# Altium schematic symbol library Microchip Interface.SchLib: 331 symbols (part 4 of 10)
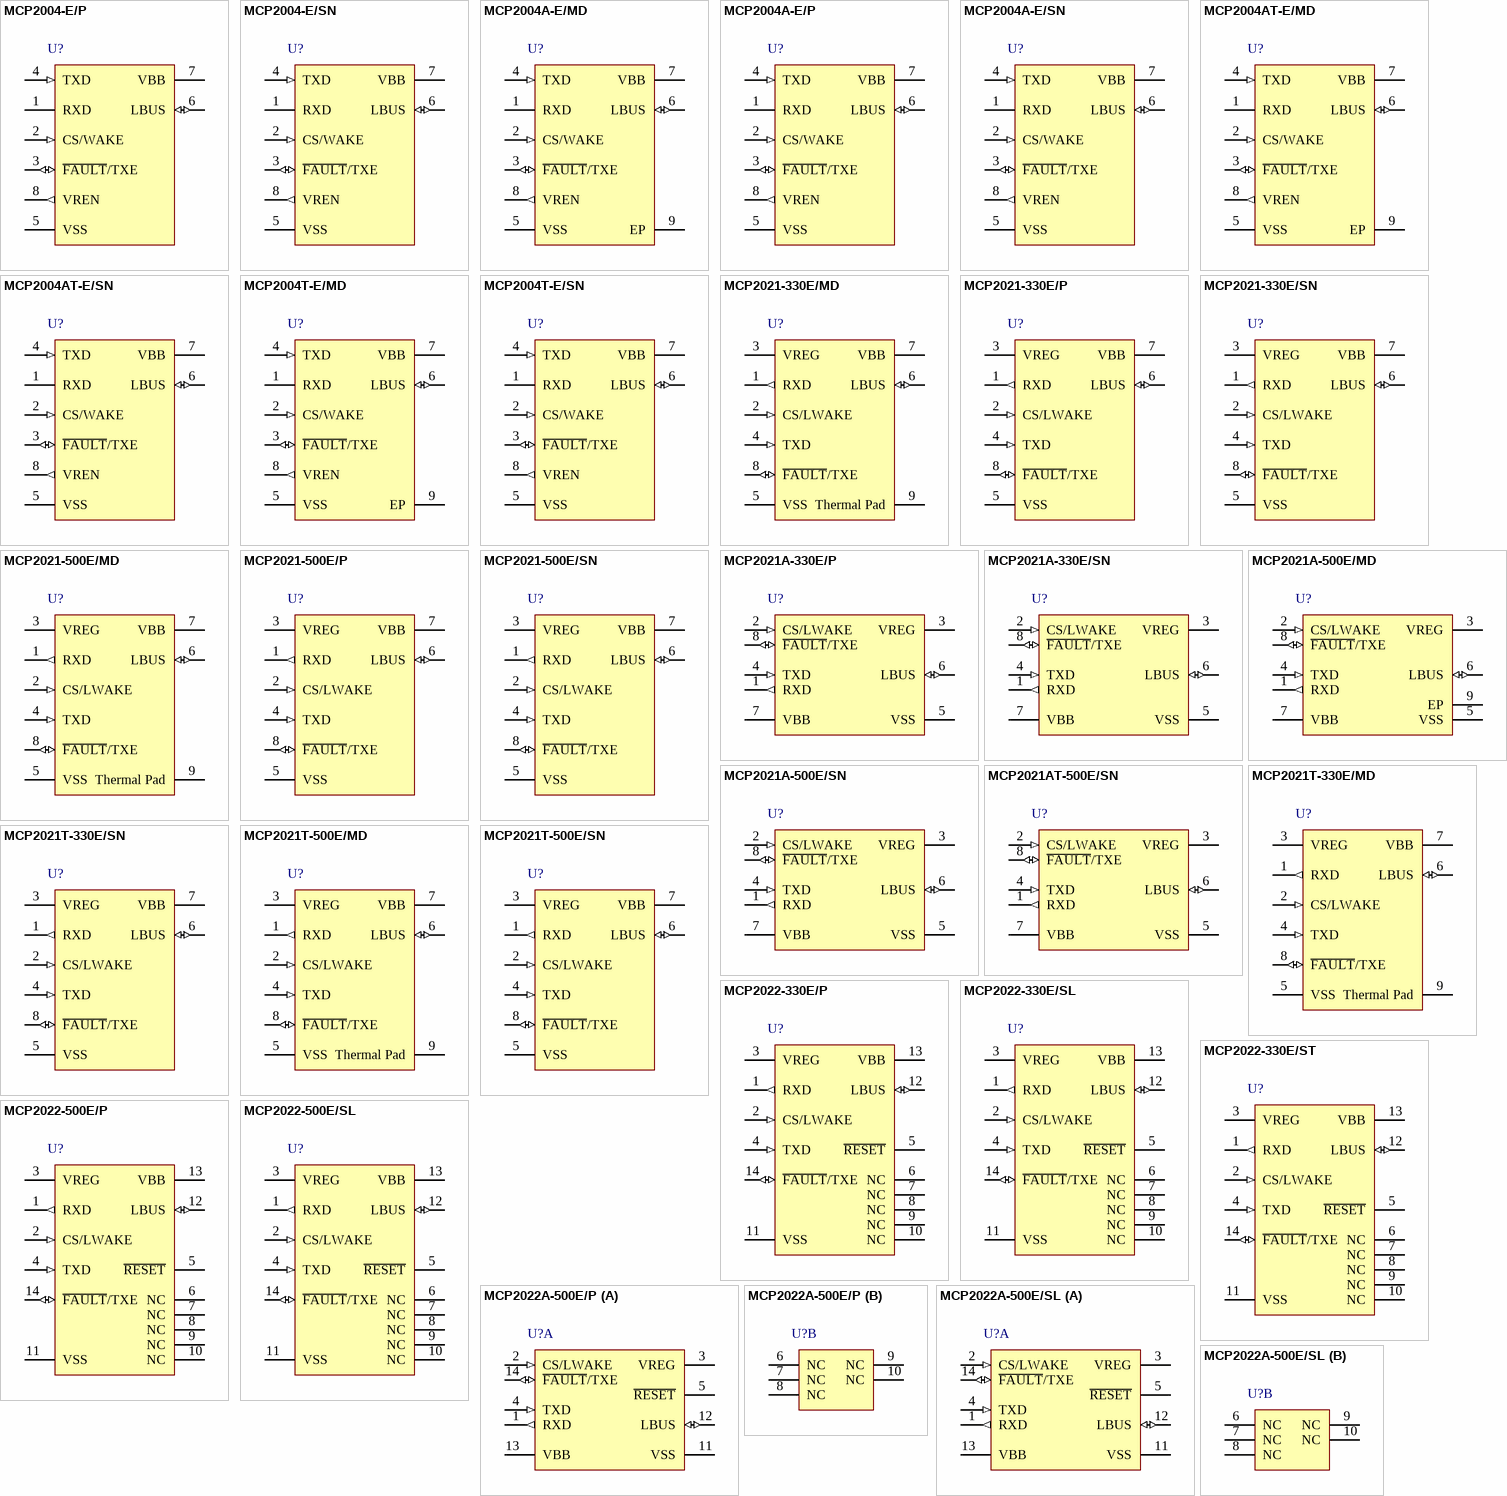
[diagram p16: symbols MCP2004-E/P to MCP2022A-500E/SL]

## MCP2021A-330E/SN
designator U?
LIN Transceiver with Voltage Regulator, 6 to 18 V, -40 to 125 degC, 8-pin SOIC (SN8), Tube; Manufacturer: Microchip; PartNumber: MCP2021A-330E/SN; DatasheetVersion: Rev. A; PackageVersion: C04-057C; PackageReference: SOIC-SN8; PackageDescription: 8-Lead Plastic Small Outline, 4.9 x 3.9 mm Body, 1.27 mm Pitch; Supplier 1: Newark; Supplier Part Number 1: 90T5938; Mounting Technology: Surface Mount; ComponentLink1Description: Manufacturer URL; ComponentLink1URL: http://www.microchip.com; ComponentLink2Description: Datasheet; ComponentLink2URL: http://ww1.microchip.com/downloads/en/DeviceDoc/22298A.pdf; ComponentLink3Description: Package Specification; ComponentLink3URL: http://www.microchip.com/stellent/groups/techpub_sg/documents/packagingspec/en012702.pdf; ComponentLink4Description: Product URL; ComponentLink4URL: http://www.microchip.com/MCP2021A
footprint MCHP-SOIC-SN8_N (SOIC, 8-Leads, Body 4.9x3.9mm, Pitch 1.27mm, IPC Medium Density)
footprint MCHP-SOIC-SN8_L (SOIC, 8-Leads, Body 4.9x3.9mm, Pitch 1.27mm, IPC High Density)
footprint MCHP-SOIC-SN8_M (SOIC, 8-Leads, Body 4.9x3.9mm, Pitch 1.27mm, IPC Low Density)
pins: 1 RXD (out) "Receive Data Output", 2 CS/LWAKE (in) "Chip Select and Local Wake-up Input", 3 VREG (power) "Voltage Regulator Output", 4 TXD (in) "Transmit Data Input", 5 VSS (power) "Ground", 6 LBUS (io) "LIN Bus", 7 VBB (power) "Battery", 8 ~{FAULT}/TXE (io) "Fault Detect Output/Transmitter Enable Input"

## MCP2021A-500E/MD
designator U?
LIN Transceiver with Voltage Regulator, 6 to 18 V, -40 to 125 degC, 8-pin DFN (MD8), Tube; Manufacturer: Microchip; PartNumber: MCP2021A-500E/MD; DatasheetVersion: Rev. A; PackageVersion: C04-131E; PackageReference: DFN-MD8; PackageDescription: 8-Lead Plastic Dual Flat, No Lead Package, 4 x 4 mm Body, 0.8 mm Pitch; Supplier 1: Newark; Supplier Part Number 1: 90T5939; Mounting Technology: Surface Mount; ComponentLink1Description: Manufacturer URL; ComponentLink1URL: http://www.microchip.com; ComponentLink2Description: Datasheet; ComponentLink2URL: http://ww1.microchip.com/downloads/en/DeviceDoc/22298A.pdf; ComponentLink3Description: Package Specification; ComponentLink3URL: http://www.microchip.com/stellent/groups/techpub_sg/documents/packagingspec/en012702.pdf; ComponentLink4Description: Product URL; ComponentLink4URL: http://www.microchip.com/MCP2021A
footprint MCHP-DFN-MD8_V (SON, 8-Leads, Body 4x4mm, Pitch 0.8mm, Thermal Pad 3.5x2.7mm)
pins: 1 RXD (out) "Receive Data Output pin. The RXD pin is a standard CMOS output pin and it follows the state of the LBUS pin.", 2 CS/LWAKE (in), 3 VREG (power) "Positive Supply Voltage Regulator Output pin. An onchip LDO gives +5.0 or +3.3V 70 mA regulated voltage on this pin.", 4 TXD (in) "Transmit data input pin (TTL level, HV compliant, adaptive pull-up). The transmitter reads the data stream on TXD pin and sends it to LIN bus. The LBUS pin is low (dominant) when TXD is low, and high (recessive) when TXD is (See Datasheet)", 5 VSS (power) "Ground pin.", 6 LBUS (io) "LIN Bus pin. LBUS is a bidirectional LIN bus Interface pin and is controlled by the signal TXD. It has an open collector output with a current limitation. To reduce ElectroMagnetic Emission, the slopes during signal changes (See Datasheet)", 7 VBB (power) "Battery Positive Supply Voltage pin. An external diode is connected in series to prevent the device from being reversely powered", 8 ~{FAULT}/TXE (io), 9 EP

## MCP2021A-500E/SN
designator U?
LIN Transceiver with Voltage Regulator, 6 to 18 V, -40 to 125 degC, 8-pin SOIC (SN8), Tube; Manufacturer: Microchip; PartNumber: MCP2021A-500E/SN; DatasheetVersion: Rev. A; PackageVersion: C04-057C; PackageReference: SOIC-SN8; PackageDescription: 8-Lead Plastic Small Outline, 4.9 x 3.9 mm Body, 1.27 mm Pitch; Supplier 1: Digi-Key; Supplier Part Number 1: MCP2021A-500E/SN-ND; Mounting Technology: Surface Mount; ComponentLink1Description: Manufacturer URL; ComponentLink1URL: http://www.microchip.com; ComponentLink2Description: Datasheet; ComponentLink2URL: http://ww1.microchip.com/downloads/en/DeviceDoc/22298A.pdf; ComponentLink3Description: Package Specification; ComponentLink3URL: http://www.microchip.com/stellent/groups/techpub_sg/documents/packagingspec/en012702.pdf; ComponentLink4Description: Product URL; ComponentLink4URL: http://www.microchip.com/MCP2021A
footprint MCHP-SOIC-SN8_N (SOIC, 8-Leads, Body 4.9x3.9mm, Pitch 1.27mm, IPC Medium Density)
footprint MCHP-SOIC-SN8_L (SOIC, 8-Leads, Body 4.9x3.9mm, Pitch 1.27mm, IPC High Density)
footprint MCHP-SOIC-SN8_M (SOIC, 8-Leads, Body 4.9x3.9mm, Pitch 1.27mm, IPC Low Density)
pins: 1 RXD (out) "Receive Data Output", 2 CS/LWAKE (in) "Chip Select and Local Wake-up Input", 3 VREG (power) "Voltage Regulator Output", 4 TXD (in) "Transmit Data Input", 5 VSS (power) "Ground", 6 LBUS (io) "LIN Bus", 7 VBB (power) "Battery", 8 ~{FAULT}/TXE (io) "Fault Detect Output/Transmitter Enable Input"

## MCP2021AT-500E/SN
designator U?
LIN Transceiver with Voltage Regulator, 6 to 18 V, -40 to 125 degC, 8-pin SOIC (SN8), Tape and Reel; Manufacturer: Microchip; PartNumber: MCP2021AT-500E/SN; DatasheetVersion: Rev. A; PackageVersion: C04-057C; PackageReference: SOIC-SN8; PackageDescription: 8-Lead Plastic Small Outline, 4.9 x 3.9 mm Body, 1.27 mm Pitch; Supplier 1: Digi-Key; Supplier Part Number 1: MCP2021AT-500E/SN-ND; Mounting Technology: Surface Mount; ComponentLink1Description: Manufacturer URL; ComponentLink1URL: http://www.microchip.com; ComponentLink2Description: Datasheet; ComponentLink2URL: http://ww1.microchip.com/downloads/en/DeviceDoc/22298A.pdf; ComponentLink3Description: Package Specification; ComponentLink3URL: http://www.microchip.com/stellent/groups/techpub_sg/documents/packagingspec/en012702.pdf; ComponentLink4Description: Product URL; ComponentLink4URL: http://www.microchip.com/MCP2021A
footprint MCHP-SOIC-SN8_N (SOIC, 8-Leads, Body 4.9x3.9mm, Pitch 1.27mm, IPC Medium Density)
footprint MCHP-SOIC-SN8_L (SOIC, 8-Leads, Body 4.9x3.9mm, Pitch 1.27mm, IPC High Density)
footprint MCHP-SOIC-SN8_M (SOIC, 8-Leads, Body 4.9x3.9mm, Pitch 1.27mm, IPC Low Density)
pins: 1 RXD (out) "Receive Data Output", 2 CS/LWAKE (in) "Chip Select and Local Wake-up Input", 3 VREG (power) "Voltage Regulator Output", 4 TXD (in) "Transmit Data Input", 5 VSS (power) "Ground", 6 LBUS (io) "LIN Bus", 7 VBB (power) "Battery", 8 ~{FAULT}/TXE (io) "Fault Detect Output/Transmitter Enable Input"

## MCP2021T-330E/MD
designator U?
LIN Transceiver with Voltage Regulator, 8-Pin DFN, Extended Temperature, Tape and Reel; Manufacturer: Microchip; PartNumber: MCP2021T-330E/MD; DatasheetVersion: revF, Jan-2012; PackageVersion: revBB, Aug-2009; PackageReference: DFN-MD8; PackageDescription: 8-Lead Plastic Dual Flat, No Lead Package (MD) - 4x4x0.9mm Body [DFN]; Supplier 1: Digi-Key; Supplier Part Number 1: MCP2021T-330E/MD-ND; Mounting Technology: Surface Mount; ComponentLink1Description: Manufacturer URL; ComponentLink1URL: http://www.microchip.com/; ComponentLink2Description: Datasheet; ComponentLink2URL: http://ww1.microchip.com/downloads/en/DeviceDoc/22018F.pdf; ComponentLink3Description: Package Specification; ComponentLink3URL: http://www.microchip.com/stellent/groups/techpub_sg/documents/packagingspec/en012702.pdf
footprint DFN-MD8 (SON, 8-Leads, Body 4x4mm, Pitch 0.8mm, Microchip Recommended)
pins: 1 RXD (out), 2 CS/LWAKE (in), 3 VREG (power), 4 TXD (in), 5 VSS (power), 6 LBUS (io), 7 VBB (power), 8 ~{FAULT}/TXE (io), 9 Thermal Pad

## MCP2021T-330E/SN
designator U?
LIN Transceiver with Voltage Regulator, 8-Pin SOIC, Extended Temperature, Tape and Reel; Manufacturer: Microchip; PartNumber: MCP2021T-330E/SN; DatasheetVersion: revF, Jan-2012; PackageVersion: revBB, Aug-2009; PackageReference: SOIC-SN8; PackageDescription: 8-Lead Plastic Small Outline (SN) - Narrow, 3.90mm Body [SOIC]; Supplier 1: Digi-Key; Supplier Part Number 1: MCP2021T-330E/SNTR-ND; Mounting Technology: Surface Mount; Code_JEDEC: MS-012; Code_IPC: SOIC127P600-8; ComponentLink1Description: Manufacturer URL; ComponentLink1URL: http://www.microchip.com/; ComponentLink2Description: Datasheet; ComponentLink2URL: http://ww1.microchip.com/downloads/en/DeviceDoc/22018F.pdf; ComponentLink3Description: Package Specification; ComponentLink3URL: http://www.microchip.com/stellent/groups/techpub_sg/documents/packagingspec/en012702.pdf
footprint SOIC-SN8_N (SOIC, 8-Leads, Body 4.9x3.8mm, Pitch 1.27mm, IPC Medium Density)
footprint SOIC-SN8_L (SOIC, 8-Leads, Body 4.9x3.8mm, Pitch 1.27mm, IPC High Density)
footprint SOIC-SN8_M (SOIC, 8-Leads, Body 4.9x3.8mm, Pitch 1.27mm, IPC Low Density)
pins: 1 RXD (out), 2 CS/LWAKE (in), 3 VREG (power), 4 TXD (in), 5 VSS (power), 6 LBUS (io), 7 VBB (power), 8 ~{FAULT}/TXE (io)

## MCP2021T-500E/MD
designator U?
LIN Transceiver with Voltage Regulator, 8-Pin DFN, Extended Temperature, Tape and Reel; Manufacturer: Microchip; PartNumber: MCP2021T-500E/MD; DatasheetVersion: revF, Jan-2012; PackageVersion: revBB, Aug-2009; PackageReference: DFN-MD8; PackageDescription: 8-Lead Plastic Dual Flat, No Lead Package (MD) - 4x4x0.9mm Body [DFN]; Supplier 1: Digi-Key; Supplier Part Number 1: MCP2021T-500E/MDTR-ND; Mounting Technology: Surface Mount; ComponentLink1Description: Manufacturer URL; ComponentLink1URL: http://www.microchip.com/; ComponentLink2Description: Datasheet; ComponentLink2URL: http://ww1.microchip.com/downloads/en/DeviceDoc/22018F.pdf; ComponentLink3Description: Package Specification; ComponentLink3URL: http://www.microchip.com/stellent/groups/techpub_sg/documents/packagingspec/en012702.pdf
footprint DFN-MD8 (SON, 8-Leads, Body 4x4mm, Pitch 0.8mm, Microchip Recommended)
pins: 1 RXD (out), 2 CS/LWAKE (in), 3 VREG (power), 4 TXD (in), 5 VSS (power), 6 LBUS (io), 7 VBB (power), 8 ~{FAULT}/TXE (io), 9 Thermal Pad

## MCP2021T-500E/SN
designator U?
LIN Transceiver with Voltage Regulator, 8-Pin SOIC, Extended Temperature, Tape and Reel; Manufacturer: Microchip; PartNumber: MCP2021T-500E/SN; DatasheetVersion: revF, Jan-2012; PackageVersion: revBB, Aug-2009; PackageReference: SOIC-SN8; PackageDescription: 8-Lead Plastic Small Outline (SN) - Narrow, 3.90mm Body [SOIC]; Supplier 1: Digi-Key; Supplier Part Number 1: MCP2021T-500E/SNTR-ND; Mounting Technology: Surface Mount; Code_JEDEC: MS-012; Code_IPC: SOIC127P600-8; ComponentLink1Description: Manufacturer URL; ComponentLink1URL: http://www.microchip.com/; ComponentLink2Description: Datasheet; ComponentLink2URL: http://ww1.microchip.com/downloads/en/DeviceDoc/22018F.pdf; ComponentLink3Description: Package Specification; ComponentLink3URL: http://www.microchip.com/stellent/groups/techpub_sg/documents/packagingspec/en012702.pdf
footprint SOIC-SN8_N (SOIC, 8-Leads, Body 4.9x3.8mm, Pitch 1.27mm, IPC Medium Density)
footprint SOIC-SN8_L (SOIC, 8-Leads, Body 4.9x3.8mm, Pitch 1.27mm, IPC High Density)
footprint SOIC-SN8_M (SOIC, 8-Leads, Body 4.9x3.8mm, Pitch 1.27mm, IPC Low Density)
pins: 1 RXD (out), 2 CS/LWAKE (in), 3 VREG (power), 4 TXD (in), 5 VSS (power), 6 LBUS (io), 7 VBB (power), 8 ~{FAULT}/TXE (io)

## MCP2022-330E/P
designator U?
LIN Transceiver with Voltage Regulator, 14-Pin PDIP, Extended Temperature; Manufacturer: Microchip; PartNumber: MCP2022-330E/P; DatasheetVersion: revF, Jan-2012; PackageVersion: revBB, Aug-2009; PackageReference: PDIP300-P14; PackageDescription: 14-Lead Plastic Dual In-Line (P) - 300 mil Body [PDIP]; Supplier 1: Digi-Key; Supplier Part Number 1: MCP2022-330E/P-ND; Mounting Technology: Through Hole; ComponentLink1Description: Manufacturer URL; ComponentLink1URL: http://www.microchip.com/; ComponentLink2Description: Datasheet; ComponentLink2URL: http://ww1.microchip.com/downloads/en/DeviceDoc/22018F.pdf; ComponentLink3Description: Package Specification; ComponentLink3URL: http://www.microchip.com/stellent/groups/techpub_sg/documents/packagingspec/en012702.pdf
footprint PDIP300-P14 (DIP, 14-Leads, Row Spacing 7.62mm, Pitch 2.54mm, Body 19.2x6.6mm)
pins: 1 RXD (out), 2 CS/LWAKE (in), 3 VREG (power), 4 TXD (in), 5 ~{RESET} (oc), 6 NC, 7 NC, 8 NC, 9 NC, 10 NC, 11 VSS (power), 12 LBUS (io), 13 VBB (power), 14 ~{FAULT}/TXE (io)

## MCP2022-330E/SL
designator U?
LIN Transceiver with Voltage Regulator, 14-Pin SOIC, Extended Temperature; Manufacturer: Microchip; PartNumber: MCP2022-330E/SL; DatasheetVersion: revF, Jan-2012; PackageVersion: revBB, Aug-2009; PackageReference: SOIC-SL14; PackageDescription: 14-Lead Plastic Small Outline (SL) - Narrow, 3.90mm Body [SOIC]; Supplier 1: Digi-Key; Supplier Part Number 1: MCP2022-330E/SL-ND; Mounting Technology: Surface Mount; Code_JEDEC: MS-012-AB; Code_IPC: SOIC127P600-14; ComponentLink1Description: Manufacturer URL; ComponentLink1URL: http://www.microchip.com/; ComponentLink2Description: Datasheet; ComponentLink2URL: http://ww1.microchip.com/downloads/en/DeviceDoc/22018F.pdf; ComponentLink3Description: Package Specification; ComponentLink3URL: http://www.microchip.com/stellent/groups/techpub_sg/documents/packagingspec/en012702.pdf
footprint SOIC-SL14_N (SOIC, 14-Leads, Body 8.7x3.9mm, Pitch 1.27mm, IPC Medium Density)
footprint SOIC-SL14_L (SOIC, 14-Leads, Body 8.7x3.9mm, Pitch 1.27mm, IPC High Density)
footprint SOIC-SL14_M (SOIC, 14-Leads, Body 8.7x3.9mm, Pitch 1.27mm, IPC Low Density)
pins: 1 RXD (out), 2 CS/LWAKE (in), 3 VREG (power), 4 TXD (in), 5 ~{RESET} (oc), 6 NC, 7 NC, 8 NC, 9 NC, 10 NC, 11 VSS (power), 12 LBUS (io), 13 VBB (power), 14 ~{FAULT}/TXE (io)

## MCP2022-330E/ST
designator U?
LIN Transceiver with Voltage Regulator, 14-Pin TSSOP, Extended Temperature; Manufacturer: Microchip; PartNumber: MCP2022-330E/ST; DatasheetVersion: revF, Jan-2012; PackageVersion: revBB, Aug-2009; PackageReference: TSSOP-ST14; PackageDescription: 14-Lead Plastic Thin Shrink Small Outline (ST) - 4.4mm Body [TSSOP]; Supplier 1: Digi-Key; Supplier Part Number 1: MCP2022-330E/ST-ND; Mounting Technology: Surface Mount; ComponentLink1Description: Manufacturer URL; ComponentLink1URL: http://www.microchip.com/; ComponentLink2Description: Datasheet; ComponentLink2URL: http://ww1.microchip.com/downloads/en/DeviceDoc/22018F.pdf; ComponentLink3Description: Package Specification; ComponentLink3URL: http://www.microchip.com/stellent/groups/techpub_sg/documents/packagingspec/en012702.pdf
footprint TSSOP-ST14_N (TSOP, 14-Leads, Body 5x4.4mm, Pitch 0.65mm, IPC Medium Density)
footprint TSSOP-ST14_L (TSOP, 14-Leads, Body 5x4.4mm, Pitch 0.65mm, IPC High Density)
footprint TSSOP-ST14_M (TSOP, 14-Leads, Body 5x4.4mm, Pitch 0.65mm, IPC Low Density)
pins: 1 RXD (out), 2 CS/LWAKE (in), 3 VREG (power), 4 TXD (in), 5 ~{RESET} (oc), 6 NC, 7 NC, 8 NC, 9 NC, 10 NC, 11 VSS (power), 12 LBUS (io), 13 VBB (power), 14 ~{FAULT}/TXE (io)

## MCP2022-500E/P
designator U?
LIN Transceiver with Voltage Regulator, 14-Pin PDIP, Extended Temperature; Manufacturer: Microchip; PartNumber: MCP2022-500E/P; DatasheetVersion: revF, Jan-2012; PackageVersion: revBB, Aug-2009; PackageReference: PDIP300-P14; PackageDescription: 14-Lead Plastic Dual In-Line (P) - 300 mil Body [PDIP]; Supplier 1: Digi-Key; Supplier Part Number 1: MCP2022-500E/P-ND; Mounting Technology: Through Hole; ComponentLink1Description: Manufacturer URL; ComponentLink1URL: http://www.microchip.com/; ComponentLink2Description: Datasheet; ComponentLink2URL: http://ww1.microchip.com/downloads/en/DeviceDoc/22018F.pdf; ComponentLink3Description: Package Specification; ComponentLink3URL: http://www.microchip.com/stellent/groups/techpub_sg/documents/packagingspec/en012702.pdf
footprint PDIP300-P14 (DIP, 14-Leads, Row Spacing 7.62mm, Pitch 2.54mm, Body 19.2x6.6mm)
pins: 1 RXD (out), 2 CS/LWAKE (in), 3 VREG (power), 4 TXD (in), 5 ~{RESET} (oc), 6 NC, 7 NC, 8 NC, 9 NC, 10 NC, 11 VSS (power), 12 LBUS (io), 13 VBB (power), 14 ~{FAULT}/TXE (io)

## MCP2022-500E/SL
designator U?
LIN Transceiver with Voltage Regulator, 14-Pin SOIC, Extended Temperature; Manufacturer: Microchip; PartNumber: MCP2022-500E/SL; DatasheetVersion: revF, Jan-2012; PackageVersion: revBB, Aug-2009; PackageReference: SOIC-SL14; PackageDescription: 14-Lead Plastic Small Outline (SL) - Narrow, 3.90mm Body [SOIC]; Supplier 1: Digi-Key; Supplier Part Number 1: MCP2022-500E/SL-ND; Mounting Technology: Surface Mount; Code_JEDEC: MS-012-AB; Code_IPC: SOIC127P600-14; ComponentLink1Description: Manufacturer URL; ComponentLink1URL: http://www.microchip.com/; ComponentLink2Description: Datasheet; ComponentLink2URL: http://ww1.microchip.com/downloads/en/DeviceDoc/22018F.pdf; ComponentLink3Description: Package Specification; ComponentLink3URL: http://www.microchip.com/stellent/groups/techpub_sg/documents/packagingspec/en012702.pdf
footprint SOIC-SL14_N (SOIC, 14-Leads, Body 8.7x3.9mm, Pitch 1.27mm, IPC Medium Density)
footprint SOIC-SL14_L (SOIC, 14-Leads, Body 8.7x3.9mm, Pitch 1.27mm, IPC High Density)
footprint SOIC-SL14_M (SOIC, 14-Leads, Body 8.7x3.9mm, Pitch 1.27mm, IPC Low Density)
pins: 1 RXD (out), 2 CS/LWAKE (in), 3 VREG (power), 4 TXD (in), 5 ~{RESET} (oc), 6 NC, 7 NC, 8 NC, 9 NC, 10 NC, 11 VSS (power), 12 LBUS (io), 13 VBB (power), 14 ~{FAULT}/TXE (io)

## MCP2022A-500E/P
designator U?
LIN Transceiver with Voltage Regulator, 200 uA, 6 to 18 V, -40 to 125 degC, 14-pin PDIP (P14), Tube; Manufacturer: Microchip; PartNumber: MCP2022A-500E/P; DatasheetVersion: Rev. A; PackageVersion: C04-005B; PackageReference: PDIP-P14; PackageDescription: 14-Lead Plastic Dual In-Line, 6.6 x 19.18 mm Body, 2.54 mm Pitch; Mounting Technology: Through Hole; ComponentLink1Description: Manufacturer URL; ComponentLink1URL: http://www.microchip.com; ComponentLink2Description: Datasheet; ComponentLink2URL: http://ww1.microchip.com/downloads/en/DeviceDoc/22298A.pdf; ComponentLink3Description: Package Specification; ComponentLink3URL: http://www.microchip.com/stellent/groups/techpub_sg/documents/packagingspec/en012702.pdf; ComponentLink4Description: Product URL; ComponentLink4URL: http://www.microchip.com/MCP2022A
footprint MCHP-PDIP-P14 (DIP, 14-Leads, Body 19.177x6.604mm, Pitch 2.54mm)
part A pins: 1 RXD (out) "Receive Data Output pin. The RXD pin is a standard CMOS output pin and it follows the state of the LBUS pin.", 2 CS/LWAKE (in), 3 VREG (power) "Positive Supply Voltage Regulator Output pin. An onchip LDO gives +5.0 or +3.3V 70 mA regulated voltage on this pin.", 4 TXD (in) "Transmit data input pin (TTL level, HV compliant, adaptive pull-up). The transmitter reads the data stream on TXD pin and sends it to LIN bus. The LBUS pin is low (dominant) when TXD is low, and high (recessive) when TXD is (See Datasheet)", 5 ~{RESET} (oc) "RESET OUTPUT pin. This pin is open drain with ~90 kO pull-up to VREG. It indicates the internal voltage has reached a valid, stable level. As long as the internal voltage is valid (above 0.8 VREG), this pin will remain HIGH (See Datasheet)", 11 VSS (power) "Ground pin.", 12 LBUS (io) "LIN Bus pin. LBUS is a bidirectional LIN bus Interface pin and is controlled by the signal TXD. It has an open collector output with a current limitation. To reduce ElectroMagnetic Emission, the slopes during signal changes (See Datasheet)", 13 VBB (power) "Battery Positive Supply Voltage pin. An external diode is connected in series to prevent the device from being reversely powered", 14 ~{FAULT}/TXE (io)
part B pins: 6 NC, 7 NC, 8 NC, 9 NC, 10 NC

## MCP2022A-500E/SL
designator U?
LIN Transceiver with Voltage Regulator, 200 uA, 6 to 18 V, -40 to 125 degC, 14-pin SOIC (SL14), Tube; Manufacturer: Microchip; PartNumber: MCP2022A-500E/SL; DatasheetVersion: Rev. A; PackageVersion: C04-065C; PackageReference: SOIC-SL14; PackageDescription: 14-Lead Plastic Small Outline, 8.65 x 3.9 mm Body, 1.27 mm Pitch; Supplier 1: Newark; Supplier Part Number 1: 90T5947; Mounting Technology: Surface Mount; ComponentLink1Description: Manufacturer URL; ComponentLink1URL: http://www.microchip.com; ComponentLink2Description: Datasheet; ComponentLink2URL: http://ww1.microchip.com/downloads/en/DeviceDoc/22298A.pdf; ComponentLink3Description: Package Specification; ComponentLink3URL: http://www.microchip.com/stellent/groups/techpub_sg/documents/packagingspec/en012702.pdf; ComponentLink4Description: Product URL; ComponentLink4URL: http://www.microchip.com/MCP2022A
footprint MCHP-SOIC-SL14_N (SOIC, 14-Leads, Body 8.65x3.9mm, Pitch 1.27mm, IPC Medium Density)
footprint MCHP-SOIC-SL14_L (SOIC, 14-Leads, Body 8.65x3.9mm, Pitch 1.27mm, IPC High Density)
footprint MCHP-SOIC-SL14_M (SOIC, 14-Leads, Body 8.65x3.9mm, Pitch 1.27mm, IPC Low Density)
part A pins: 1 RXD (out) "Receive Data Output pin. The RXD pin is a standard CMOS output pin and it follows the state of the LBUS pin.", 2 CS/LWAKE (in), 3 VREG (power) "Positive Supply Voltage Regulator Output pin. An onchip LDO gives +5.0 or +3.3V 70 mA regulated voltage on this pin.", 4 TXD (in) "Transmit data input pin (TTL level, HV compliant, adaptive pull-up). The transmitter reads the data stream on TXD pin and sends it to LIN bus. The LBUS pin is low (dominant) when TXD is low, and high (recessive) when TXD is (See Datasheet)", 5 ~{RESET} (oc) "RESET OUTPUT pin. This pin is open drain with ~90 kO pull-up to VREG. It indicates the internal voltage has reached a valid, stable level. As long as the internal voltage is valid (above 0.8 VREG), this pin will remain HIGH (See Datasheet)", 11 VSS (power) "Ground pin.", 12 LBUS (io) "LIN Bus pin. LBUS is a bidirectional LIN bus Interface pin and is controlled by the signal TXD. It has an open collector output with a current limitation. To reduce ElectroMagnetic Emission, the slopes during signal changes (See Datasheet)", 13 VBB (power) "Battery Positive Supply Voltage pin. An external diode is connected in series to prevent the device from being reversely powered", 14 ~{FAULT}/TXE (io)
part B pins: 6 NC, 7 NC, 8 NC, 9 NC, 10 NC

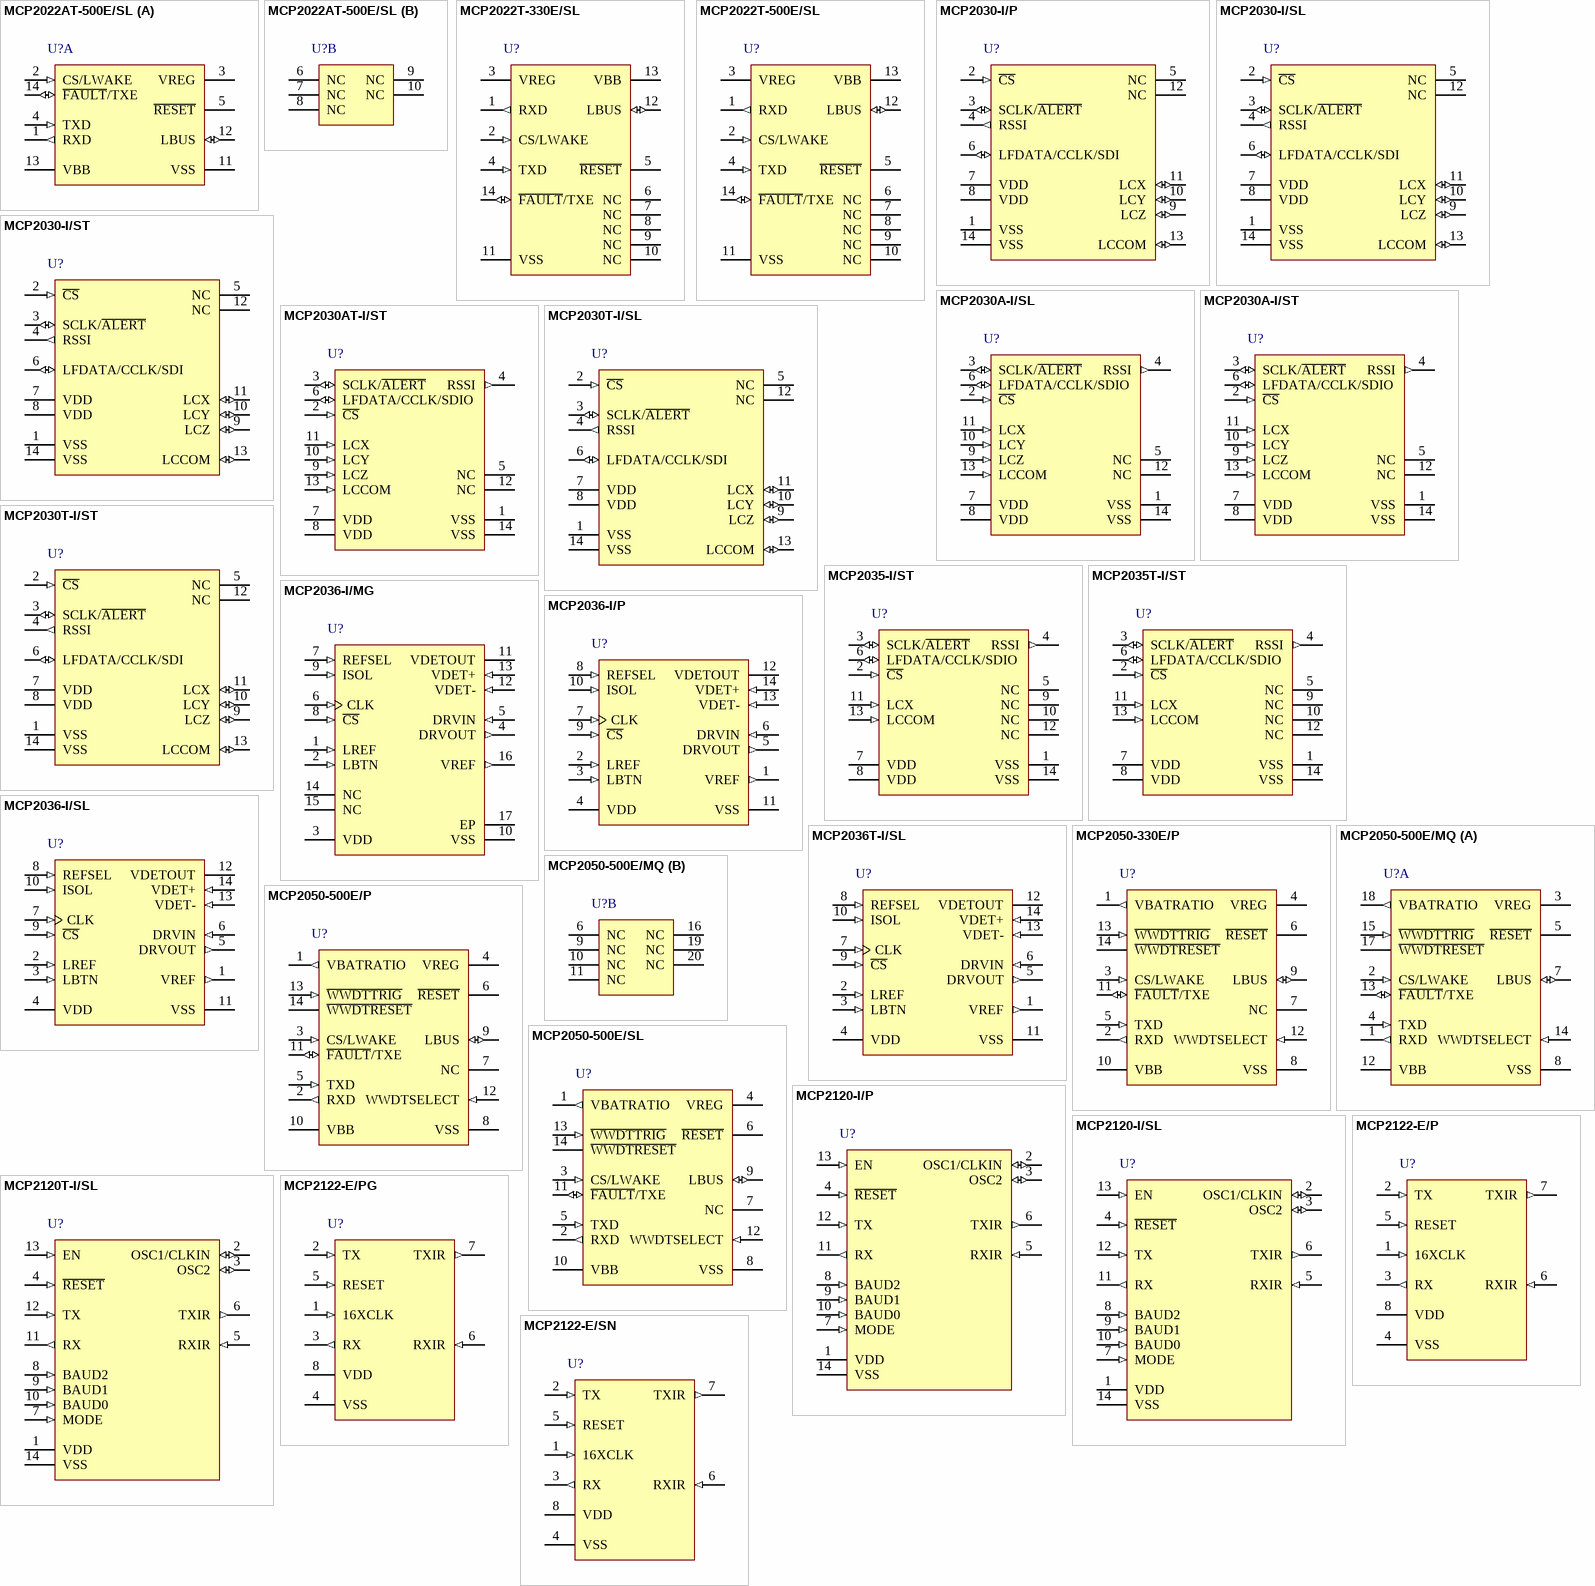
[diagram p6: symbols MCP2022AT-500E/SL to MCP2122-E/SN]

## MCP2022AT-500E/SL
designator U?
LIN Transceiver with Voltage Regulator, 200 uA, 6 to 18 V, -40 to 125 degC, 14-pin SOIC (SL14), Tape and Reel; Manufacturer: Microchip; PartNumber: MCP2022AT-500E/SL; DatasheetVersion: Rev. A; PackageVersion: C04-065C; PackageReference: SOIC-SL14; PackageDescription: 14-Lead Plastic Small Outline, 8.65 x 3.9 mm Body, 1.27 mm Pitch; Supplier 1: Digi-Key; Supplier Part Number 1: MCP2022AT-500E/SL-ND; Mounting Technology: Surface Mount; ComponentLink1Description: Manufacturer URL; ComponentLink1URL: http://www.microchip.com; ComponentLink2Description: Datasheet; ComponentLink2URL: http://ww1.microchip.com/downloads/en/DeviceDoc/22298A.pdf; ComponentLink3Description: Package Specification; ComponentLink3URL: http://www.microchip.com/stellent/groups/techpub_sg/documents/packagingspec/en012702.pdf; ComponentLink4Description: Product URL; ComponentLink4URL: http://www.microchip.com/MCP2022A
footprint MCHP-SOIC-SL14_N (SOIC, 14-Leads, Body 8.65x3.9mm, Pitch 1.27mm, IPC Medium Density)
footprint MCHP-SOIC-SL14_L (SOIC, 14-Leads, Body 8.65x3.9mm, Pitch 1.27mm, IPC High Density)
footprint MCHP-SOIC-SL14_M (SOIC, 14-Leads, Body 8.65x3.9mm, Pitch 1.27mm, IPC Low Density)
part A pins: 1 RXD (out) "Receive Data Output pin. The RXD pin is a standard CMOS output pin and it follows the state of the LBUS pin.", 2 CS/LWAKE (in), 3 VREG (power) "Positive Supply Voltage Regulator Output pin. An onchip LDO gives +5.0 or +3.3V 70 mA regulated voltage on this pin.", 4 TXD (in) "Transmit data input pin (TTL level, HV compliant, adaptive pull-up). The transmitter reads the data stream on TXD pin and sends it to LIN bus. The LBUS pin is low (dominant) when TXD is low, and high (recessive) when TXD is (See Datasheet)", 5 ~{RESET} (oc) "RESET OUTPUT pin. This pin is open drain with ~90 kO pull-up to VREG. It indicates the internal voltage has reached a valid, stable level. As long as the internal voltage is valid (above 0.8 VREG), this pin will remain HIGH (See Datasheet)", 11 VSS (power) "Ground pin.", 12 LBUS (io) "LIN Bus pin. LBUS is a bidirectional LIN bus Interface pin and is controlled by the signal TXD. It has an open collector output with a current limitation. To reduce ElectroMagnetic Emission, the slopes during signal changes (See Datasheet)", 13 VBB (power) "Battery Positive Supply Voltage pin. An external diode is connected in series to prevent the device from being reversely powered", 14 ~{FAULT}/TXE (io)
part B pins: 6 NC, 7 NC, 8 NC, 9 NC, 10 NC

## MCP2022T-330E/SL
designator U?
LIN Transceiver with Voltage Regulator, 14-Pin SOIC, Extended Temperature, Tape and Reel; Manufacturer: Microchip; PartNumber: MCP2022T-330E/SL; DatasheetVersion: revF, Jan-2012; PackageVersion: revBB, Aug-2009; PackageReference: SOIC-SL14; PackageDescription: 14-Lead Plastic Small Outline (SL) - Narrow, 3.90mm Body [SOIC]; Supplier 1: Digi-Key; Supplier Part Number 1: MCP2022T-330E/SLTR-ND; Mounting Technology: Surface Mount; Code_JEDEC: MS-012-AB; Code_IPC: SOIC127P600-14; ComponentLink1Description: Manufacturer URL; ComponentLink1URL: http://www.microchip.com/; ComponentLink2Description: Datasheet; ComponentLink2URL: http://ww1.microchip.com/downloads/en/DeviceDoc/22018F.pdf; ComponentLink3Description: Package Specification; ComponentLink3URL: http://www.microchip.com/stellent/groups/techpub_sg/documents/packagingspec/en012702.pdf
footprint SOIC-SL14_N (SOIC, 14-Leads, Body 8.7x3.9mm, Pitch 1.27mm, IPC Medium Density)
footprint SOIC-SL14_L (SOIC, 14-Leads, Body 8.7x3.9mm, Pitch 1.27mm, IPC High Density)
footprint SOIC-SL14_M (SOIC, 14-Leads, Body 8.7x3.9mm, Pitch 1.27mm, IPC Low Density)
pins: 1 RXD (out), 2 CS/LWAKE (in), 3 VREG (power), 4 TXD (in), 5 ~{RESET} (oc), 6 NC, 7 NC, 8 NC, 9 NC, 10 NC, 11 VSS (power), 12 LBUS (io), 13 VBB (power), 14 ~{FAULT}/TXE (io)

## MCP2022T-500E/SL
designator U?
LIN Transceiver with Voltage Regulator, 14-Pin SOIC, Extended Temperature, Tape and Reel; Manufacturer: Microchip; PartNumber: MCP2022T-500E/SL; DatasheetVersion: revF, Jan-2012; PackageVersion: revBB, Aug-2009; PackageReference: SOIC-SL14; PackageDescription: 14-Lead Plastic Small Outline (SL) - Narrow, 3.90mm Body [SOIC]; Supplier 1: Digi-Key; Supplier Part Number 1: MCP2022T-500E/SLTR-ND; Mounting Technology: Surface Mount; Code_JEDEC: MS-012-AB; Code_IPC: SOIC127P600-14; ComponentLink1Description: Manufacturer URL; ComponentLink1URL: http://www.microchip.com/; ComponentLink2Description: Datasheet; ComponentLink2URL: http://ww1.microchip.com/downloads/en/DeviceDoc/22018F.pdf; ComponentLink3Description: Package Specification; ComponentLink3URL: http://www.microchip.com/stellent/groups/techpub_sg/documents/packagingspec/en012702.pdf
footprint SOIC-SL14_N (SOIC, 14-Leads, Body 8.7x3.9mm, Pitch 1.27mm, IPC Medium Density)
footprint SOIC-SL14_L (SOIC, 14-Leads, Body 8.7x3.9mm, Pitch 1.27mm, IPC High Density)
footprint SOIC-SL14_M (SOIC, 14-Leads, Body 8.7x3.9mm, Pitch 1.27mm, IPC Low Density)
pins: 1 RXD (out), 2 CS/LWAKE (in), 3 VREG (power), 4 TXD (in), 5 ~{RESET} (oc), 6 NC, 7 NC, 8 NC, 9 NC, 10 NC, 11 VSS (power), 12 LBUS (io), 13 VBB (power), 14 ~{FAULT}/TXE (io)

## MCP2030-I/P
designator U?
Three-Channel Analog Front-End Device, 14-Pin PDIP, Industrial Temperature; Manufacturer: Microchip; PartNumber: MCP2030-I/P; DatasheetVersion: revA, Nov-2005; PackageVersion: revBB, Aug-2009; PackageReference: PDIP300-P14; PackageDescription: 14-Lead Plastic Dual In-Line (P) - 300 mil Body [PDIP]; Supplier 1: Digi-Key; Supplier Part Number 1: MCP2030-I/P-ND; Mounting Technology: Through Hole; ComponentLink1Description: Manufacturer URL; ComponentLink1URL: http://www.microchip.com/; ComponentLink2Description: Datasheet; ComponentLink2URL: http://ww1.microchip.com/downloads/en/DeviceDoc/21981a.pdf; ComponentLink3Description: Package Specification; ComponentLink3URL: http://www.microchip.com/stellent/groups/techpub_sg/documents/packagingspec/en012702.pdf
footprint PDIP300-P14 (DIP, 14-Leads, Row Spacing 7.62mm, Pitch 2.54mm, Body 19.2x6.6mm)
pins: 1 VSS (power), 2 ~{CS} (in), 3 SCLK/~{ALERT} (io), 4 RSSI (out), 5 NC, 6 LFDATA/CCLK/SDI (io), 7 VDD (power), 8 VDD (power), 9 LCZ (io), 10 LCY (io), 11 LCX (io), 12 NC, 13 LCCOM (io), 14 VSS (power)

## MCP2030-I/SL
designator U?
Three-Channel Analog Front-End Device, 14-Pin SOIC, Industrial Temperature; Manufacturer: Microchip; PartNumber: MCP2030-I/SL; DatasheetVersion: revA, Nov-2005; PackageVersion: revBB, Aug-2009; PackageReference: SOIC-SL14; PackageDescription: 14-Lead Plastic Small Outline (SL) - Narrow, 3.90mm Body [SOIC]; Supplier 1: Digi-Key; Supplier Part Number 1: MCP2030-I/SL-ND; Mounting Technology: Surface Mount; Code_JEDEC: MS-012-AB; Code_IPC: SOIC127P600-14; ComponentLink1Description: Manufacturer URL; ComponentLink1URL: http://www.microchip.com/; ComponentLink2Description: Datasheet; ComponentLink2URL: http://ww1.microchip.com/downloads/en/DeviceDoc/21981a.pdf; ComponentLink3Description: Package Specification; ComponentLink3URL: http://www.microchip.com/stellent/groups/techpub_sg/documents/packagingspec/en012702.pdf
footprint SOIC-SL14_N (SOIC, 14-Leads, Body 8.7x3.9mm, Pitch 1.27mm, IPC Medium Density)
footprint SOIC-SL14_L (SOIC, 14-Leads, Body 8.7x3.9mm, Pitch 1.27mm, IPC High Density)
footprint SOIC-SL14_M (SOIC, 14-Leads, Body 8.7x3.9mm, Pitch 1.27mm, IPC Low Density)
pins: 1 VSS (power), 2 ~{CS} (in), 3 SCLK/~{ALERT} (io), 4 RSSI (out), 5 NC, 6 LFDATA/CCLK/SDI (io), 7 VDD (power), 8 VDD (power), 9 LCZ (io), 10 LCY (io), 11 LCX (io), 12 NC, 13 LCCOM (io), 14 VSS (power)

## MCP2030-I/ST
designator U?
Three-Channel Analog Front-End Device, 14-Pin TSSOP, Industrial Temperature; Manufacturer: Microchip; PartNumber: MCP2030-I/ST; DatasheetVersion: revA, Nov-2005; PackageVersion: revBB, Aug-2009; PackageReference: TSSOP-ST14; PackageDescription: 14-Lead Plastic Thin Shrink Small Outline (ST) - 4.4mm Body [TSSOP]; Supplier 1: Digi-Key; Supplier Part Number 1: MCP2030-I/ST-ND; Mounting Technology: Surface Mount; ComponentLink1Description: Manufacturer URL; ComponentLink1URL: http://www.microchip.com/; ComponentLink2Description: Datasheet; ComponentLink2URL: http://ww1.microchip.com/downloads/en/DeviceDoc/21981a.pdf; ComponentLink3Description: Package Specification; ComponentLink3URL: http://www.microchip.com/stellent/groups/techpub_sg/documents/packagingspec/en012702.pdf
footprint TSSOP-ST14_N (TSOP, 14-Leads, Body 5x4.4mm, Pitch 0.65mm, IPC Medium Density)
footprint TSSOP-ST14_L (TSOP, 14-Leads, Body 5x4.4mm, Pitch 0.65mm, IPC High Density)
footprint TSSOP-ST14_M (TSOP, 14-Leads, Body 5x4.4mm, Pitch 0.65mm, IPC Low Density)
pins: 1 VSS (power), 2 ~{CS} (in), 3 SCLK/~{ALERT} (io), 4 RSSI (out), 5 NC, 6 LFDATA/CCLK/SDI (io), 7 VDD (power), 8 VDD (power), 9 LCZ (io), 10 LCY (io), 11 LCX (io), 12 NC, 13 LCCOM (io), 14 VSS (power)

## MCP2030A-I/SL
designator U?
Three-Channel Analog Front-End Device with 1 mVPP Input Detection Sensitivity, -40 to 85 degC, 14-pin SOIC (SL14), Tube; Manufacturer: Microchip; PartNumber: MCP2030A-I/SL; DatasheetVersion: Rev. B; PackageVersion: C04-065C; PackageReference: SOIC-SL14; PackageDescription: 14-Lead Plastic Small Outline, 8.65 x 3.9 mm Body, 1.27 mm Pitch; Supplier 1: Digi-Key; Supplier Part Number 1: MCP2030A-I/SL-ND; Mounting Technology: Surface Mount; ComponentLink1Description: Manufacturer URL; ComponentLink1URL: http://www.microchip.com; ComponentLink2Description: Datasheet; ComponentLink2URL: http://ww1.microchip.com/downloads/en/DeviceDoc/22235B.pdf; ComponentLink3Description: Package Specification; ComponentLink3URL: http://www.microchip.com/stellent/groups/techpub_sg/documents/packagingspec/en012702.pdf; ComponentLink4Description: Product URL; ComponentLink4URL: http://www.microchip.com/MCP2030A
footprint MCHP-SOIC-SL14_N (SOIC, 14-Leads, Body 8.65x3.9mm, Pitch 1.27mm, IPC Medium Density)
footprint MCHP-SOIC-SL14_L (SOIC, 14-Leads, Body 8.65x3.9mm, Pitch 1.27mm, IPC High Density)
footprint MCHP-SOIC-SL14_M (SOIC, 14-Leads, Body 8.65x3.9mm, Pitch 1.27mm, IPC Low Density)
pins: 1 VSS (power) "Ground Pin.", 2 ~{CS} (in) "Chip Select Digital Input Pin.", 3 SCLK/~{ALERT} (io) "Clock input for the modified 3-wire SPI interface. A\L\E\R\T\ output: This pin goes low if there is a parity error in the configuration register or the 32 ms alarm timer is timed-out.", 4 RSSI (out) "Received Signal Strength Indicator (RSSI) current output.", 5 NC "No Connect.", 6 LFDATA/CCLK/SDIO (io) "Demodulated data output. Carrier clock output. Serial input or output data for the modified 3-wire SPI interface.", 7 VDD (power) "Positive Supply Voltage Pin.", 8 VDD (power) "Positive Supply Voltage Pin.", 9 LCZ (in) "Input pin for external LC antennas.", 10 LCY (in) "Input pin for external LC antennas.", 11 LCX (in) "Input pin for external LC antennas.", 12 NC "No Connect.", 13 LCCOM (in) "Common reference input for the external LC antennas.", 14 VSS (power) "Ground Pin."

## MCP2030A-I/ST
designator U?
Three-Channel Analog Front-End Device with 1 mVPP Input Detection Sensitivity, -40 to 85 degC, 14-pin TSSOP (ST14), Tube; Manufacturer: Microchip; PartNumber: MCP2030A-I/ST; DatasheetVersion: Rev. B; PackageVersion: C04-087C; PackageReference: TSSOP-ST14; PackageDescription: 14-Lead Plastic Thin Shrink Small Outline, 5 x 4.4 mm Body, 0.65 mm Pitch; Supplier 1: Digi-Key; Supplier Part Number 1: MCP2030A-I/ST-ND; Mounting Technology: Surface Mount; ComponentLink1Description: Manufacturer URL; ComponentLink1URL: http://www.microchip.com; ComponentLink2Description: Datasheet; ComponentLink2URL: http://ww1.microchip.com/downloads/en/DeviceDoc/22235B.pdf; ComponentLink3Description: Package Specification; ComponentLink3URL: http://www.microchip.com/stellent/groups/techpub_sg/documents/packagingspec/en012702.pdf; ComponentLink4Description: Product URL; ComponentLink4URL: http://www.microchip.com/MCP2030A
footprint MCHP-TSSOP-ST14_N (SOP, 14-Leads, Body 5x4.4mm, Pitch 0.65mm, IPC Medium Density)
footprint MCHP-TSSOP-ST14_L (SOP, 14-Leads, Body 5x4.4mm, Pitch 0.65mm, IPC High Density)
footprint MCHP-TSSOP-ST14_M (SOP, 14-Leads, Body 5x4.4mm, Pitch 0.65mm, IPC Low Density)
pins: 1 VSS (power) "Ground Pin.", 2 ~{CS} (in) "Chip Select Digital Input Pin.", 3 SCLK/~{ALERT} (io) "Clock input for the modified 3-wire SPI interface. A\L\E\R\T\ output: This pin goes low if there is a parity error in the configuration register or the 32 ms alarm timer is timed-out.", 4 RSSI (out) "Received Signal Strength Indicator (RSSI) current output.", 5 NC "No Connect.", 6 LFDATA/CCLK/SDIO (io) "Demodulated data output. Carrier clock output. Serial input or output data for the modified 3-wire SPI interface.", 7 VDD (power) "Positive Supply Voltage Pin.", 8 VDD (power) "Positive Supply Voltage Pin.", 9 LCZ (in) "Input pin for external LC antennas.", 10 LCY (in) "Input pin for external LC antennas.", 11 LCX (in) "Input pin for external LC antennas.", 12 NC "No Connect.", 13 LCCOM (in) "Common reference input for the external LC antennas.", 14 VSS (power) "Ground Pin."

## MCP2030AT-I/ST
designator U?
Three-Channel Analog Front-End Device with 1 mVPP Input Detection Sensitivity, -40 to 85 degC, 14-pin TSSOP (ST14), Tape and Reel; Manufacturer: Microchip; PartNumber: MCP2030AT-I/ST; DatasheetVersion: Rev. B; PackageVersion: C04-087C; PackageReference: TSSOP-ST14; PackageDescription: 14-Lead Plastic Thin Shrink Small Outline, 5 x 4.4 mm Body, 0.65 mm Pitch; Supplier 1: Digi-Key; Supplier Part Number 1: MCP2030AT-I/ST-ND; Mounting Technology: Surface Mount; ComponentLink1Description: Manufacturer URL; ComponentLink1URL: http://www.microchip.com; ComponentLink2Description: Datasheet; ComponentLink2URL: http://ww1.microchip.com/downloads/en/DeviceDoc/22235B.pdf; ComponentLink3Description: Package Specification; ComponentLink3URL: http://www.microchip.com/stellent/groups/techpub_sg/documents/packagingspec/en012702.pdf; ComponentLink4Description: Product URL; ComponentLink4URL: http://www.microchip.com/MCP2030A
footprint MCHP-TSSOP-ST14_N (SOP, 14-Leads, Body 5x4.4mm, Pitch 0.65mm, IPC Medium Density)
footprint MCHP-TSSOP-ST14_L (SOP, 14-Leads, Body 5x4.4mm, Pitch 0.65mm, IPC High Density)
footprint MCHP-TSSOP-ST14_M (SOP, 14-Leads, Body 5x4.4mm, Pitch 0.65mm, IPC Low Density)
pins: 1 VSS (power) "Ground Pin.", 2 ~{CS} (in) "Chip Select Digital Input Pin.", 3 SCLK/~{ALERT} (io) "Clock input for the modified 3-wire SPI interface. A\L\E\R\T\ output: This pin goes low if there is a parity error in the configuration register or the 32 ms alarm timer is timed-out.", 4 RSSI (out) "Received Signal Strength Indicator (RSSI) current output.", 5 NC "No Connect.", 6 LFDATA/CCLK/SDIO (io) "Demodulated data output. Carrier clock output. Serial input or output data for the modified 3-wire SPI interface.", 7 VDD (power) "Positive Supply Voltage Pin.", 8 VDD (power) "Positive Supply Voltage Pin.", 9 LCZ (in) "Input pin for external LC antennas.", 10 LCY (in) "Input pin for external LC antennas.", 11 LCX (in) "Input pin for external LC antennas.", 12 NC "No Connect.", 13 LCCOM (in) "Common reference input for the external LC antennas.", 14 VSS (power) "Ground Pin."

## MCP2030T-I/SL
designator U?
Three-Channel Analog Front-End Device, 14-Pin SOIC, Industrial Temperature, Tape and Reel; Manufacturer: Microchip; PartNumber: MCP2030T-I/SL; DatasheetVersion: revA, Nov-2005; PackageVersion: revBB, Aug-2009; PackageReference: SOIC-SL14; PackageDescription: 14-Lead Plastic Small Outline (SL) - Narrow, 3.90mm Body [SOIC]; Supplier 1: Digi-Key; Supplier Part Number 1: MCP2030T-I/SL-ND; Mounting Technology: Surface Mount; Code_JEDEC: MS-012-AB; Code_IPC: SOIC127P600-14; ComponentLink1Description: Manufacturer URL; ComponentLink1URL: http://www.microchip.com/; ComponentLink2Description: Datasheet; ComponentLink2URL: http://ww1.microchip.com/downloads/en/DeviceDoc/21981a.pdf; ComponentLink3Description: Package Specification; ComponentLink3URL: http://www.microchip.com/stellent/groups/techpub_sg/documents/packagingspec/en012702.pdf
footprint SOIC-SL14_N (SOIC, 14-Leads, Body 8.7x3.9mm, Pitch 1.27mm, IPC Medium Density)
footprint SOIC-SL14_L (SOIC, 14-Leads, Body 8.7x3.9mm, Pitch 1.27mm, IPC High Density)
footprint SOIC-SL14_M (SOIC, 14-Leads, Body 8.7x3.9mm, Pitch 1.27mm, IPC Low Density)
pins: 1 VSS (power), 2 ~{CS} (in), 3 SCLK/~{ALERT} (io), 4 RSSI (out), 5 NC, 6 LFDATA/CCLK/SDI (io), 7 VDD (power), 8 VDD (power), 9 LCZ (io), 10 LCY (io), 11 LCX (io), 12 NC, 13 LCCOM (io), 14 VSS (power)

## MCP2030T-I/ST
designator U?
Three-Channel Analog Front-End Device, 14-Pin TSSOP, Industrial Temperature, Tape and Reel; Manufacturer: Microchip; PartNumber: MCP2030T-I/ST; DatasheetVersion: revA, Nov-2005; PackageVersion: revBB, Aug-2009; PackageReference: TSSOP-ST14; PackageDescription: 14-Lead Plastic Thin Shrink Small Outline (ST) - 4.4mm Body [TSSOP]; Supplier 1: Digi-Key; Supplier Part Number 1: MCP2030T-I/ST-ND; Mounting Technology: Surface Mount; ComponentLink1Description: Manufacturer URL; ComponentLink1URL: http://www.microchip.com/; ComponentLink2Description: Datasheet; ComponentLink2URL: http://ww1.microchip.com/downloads/en/DeviceDoc/21981a.pdf; ComponentLink3Description: Package Specification; ComponentLink3URL: http://www.microchip.com/stellent/groups/techpub_sg/documents/packagingspec/en012702.pdf
footprint TSSOP-ST14_N (TSOP, 14-Leads, Body 5x4.4mm, Pitch 0.65mm, IPC Medium Density)
footprint TSSOP-ST14_L (TSOP, 14-Leads, Body 5x4.4mm, Pitch 0.65mm, IPC High Density)
footprint TSSOP-ST14_M (TSOP, 14-Leads, Body 5x4.4mm, Pitch 0.65mm, IPC Low Density)
pins: 1 VSS (power), 2 ~{CS} (in), 3 SCLK/~{ALERT} (io), 4 RSSI (out), 5 NC, 6 LFDATA/CCLK/SDI (io), 7 VDD (power), 8 VDD (power), 9 LCZ (io), 10 LCY (io), 11 LCX (io), 12 NC, 13 LCCOM (io), 14 VSS (power)

## MCP2035-I/ST
designator U?
Inductive Sensor Analog Front End Device, -40 to 85 degC, 16-pin QFN (MG16), Tube; Manufacturer: Microchip; PartNumber: MCP2035-I/ST; DatasheetVersion: Rev. A; PackageVersion: C04-087C; PackageReference: TSSOP-ST14; PackageDescription: 14-Lead Plastic Thin Shrink Small Outline, 5 x 4.4 mm Body, 0.65 mm Pitch; Mounting Technology: Surface Mount; ComponentLink1Description: Manufacturer URL; ComponentLink1URL: http://www.microchip.com; ComponentLink2Description: Datasheet; ComponentLink2URL: http://ww1.microchip.com/downloads/en/DeviceDoc/22304A.pdf; ComponentLink3Description: Package Specification; ComponentLink3URL: http://www.microchip.com/stellent/groups/techpub_sg/documents/packagingspec/en012702.pdf; ComponentLink4Description: Product URL; ComponentLink4URL: http://www.microchip.com/MCP2035
footprint MCHP-TSSOP-ST14_N (SOP, 14-Leads, Body 5x4.4mm, Pitch 0.65mm, IPC Medium Density)
footprint MCHP-TSSOP-ST14_L (SOP, 14-Leads, Body 5x4.4mm, Pitch 0.65mm, IPC High Density)
footprint MCHP-TSSOP-ST14_M (SOP, 14-Leads, Body 5x4.4mm, Pitch 0.65mm, IPC Low Density)
pins: 1 VSS (power) "Ground Pin", 2 ~{CS} (in) "Chip Select Digital Input Pin", 3 SCLK/~{ALERT} (io) "Clock input for the modified 3-wire SPI interface. A\L\E\R\T\ output: This pin goes low if there is a parity error in the Configuration register or the 32 ms Alarm Timer is timed out.", 4 RSSI (out) "Received Signal Strength Indicator (RSSI) current output", 5 NC "No Connect", 6 LFDATA/CCLK/SDIO (io) "Demodulated data output Carrier clock output Serial input or output data for the modified 3-wire SPI interface", 7 VDD (power) "Positive Supply Voltage Pin", 8 VDD (power) "Positive Supply Voltage Pin", 9 NC "No Connect", 10 NC "No Connect", 11 LCX (in) "Input pin for external LC antenna", 12 NC "No Connect", 13 LCCOM (in) "Common reference input for the external LC antenna", 14 VSS (power) "Ground Pin"

## MCP2035T-I/ST
designator U?
Analog Front-End Device for BodyCom Application, -40 to 85 degC, 14-pin TSSOP (ST14), Tape and Reel; Manufacturer: Microchip; PartNumber: MCP2035T-I/ST; DatasheetVersion: Rev. A; PackageVersion: C04-087C; PackageReference: TSSOP-ST14; PackageDescription: 14-Lead Plastic Thin Shrink Small Outline, 5 x 4.4 mm Body, 0.65 mm Pitch; Mounting Technology: Surface Mount; ComponentLink1Description: Manufacturer URL; ComponentLink1URL: http://www.microchip.com; ComponentLink2Description: Datasheet; ComponentLink2URL: http://ww1.microchip.com/downloads/en/DeviceDoc/22304A.pdf; ComponentLink3Description: Package Specification; ComponentLink3URL: http://www.microchip.com/stellent/groups/techpub_sg/documents/packagingspec/en012702.pdf; ComponentLink4Description: Product URL; ComponentLink4URL: http://www.microchip.com/MCP2035
footprint MCHP-TSSOP-ST14_N (SOP, 14-Leads, Body 5x4.4mm, Pitch 0.65mm, IPC Medium Density)
footprint MCHP-TSSOP-ST14_L (SOP, 14-Leads, Body 5x4.4mm, Pitch 0.65mm, IPC High Density)
footprint MCHP-TSSOP-ST14_M (SOP, 14-Leads, Body 5x4.4mm, Pitch 0.65mm, IPC Low Density)
pins: 1 VSS (power) "Ground Pin", 2 ~{CS} (in) "Chip Select Digital Input Pin", 3 SCLK/~{ALERT} (io) "Clock input for the modified 3-wire SPI interface. A\L\E\R\T\ output: This pin goes low if there is a parity error in the Configuration register or the 32 ms Alarm Timer is timed out.", 4 RSSI (out) "Received Signal Strength Indicator (RSSI) current output", 5 NC "No Connect", 6 LFDATA/CCLK/SDIO (io) "Demodulated data output Carrier clock output Serial input or output data for the modified 3-wire SPI interface", 7 VDD (power) "Positive Supply Voltage Pin", 8 VDD (power) "Positive Supply Voltage Pin", 9 NC "No Connect", 10 NC "No Connect", 11 LCX (in) "Input pin for external LC antenna", 12 NC "No Connect", 13 LCCOM (in) "Common reference input for the external LC antenna", 14 VSS (power) "Ground Pin"

## MCP2036-I/MG
designator U?
Inductive Sensor Analog Front End Device, -40 to 85 degC, 16-pin QFN (MG16), Tube; Manufacturer: Microchip; PartNumber: MCP2036-I/MG; DatasheetVersion: Rev. C; PackageVersion: C04-142A; PackageReference: QFN-MG16; PackageDescription: 16-Lead Plastic Quad Flat, No Lead Package, 3 x 3 mm Body, 0.5 mm Pitch; Supplier 1: Digi-Key; Supplier Part Number 1: MCP2036-I/MG-ND; Mounting Technology: Surface Mount; ComponentLink1Description: Manufacturer URL; ComponentLink1URL: http://www.microchip.com; ComponentLink2Description: Datasheet; ComponentLink2URL: http://ww1.microchip.com/downloads/en/DeviceDoc/22186C.pdf; ComponentLink3Description: Package Specification; ComponentLink3URL: http://www.microchip.com/stellent/groups/techpub_sg/documents/packagingspec/en012702.pdf; ComponentLink4Description: Product URL; ComponentLink4URL: http://www.microchip.com/MCP2036
footprint MCHP-QFN-MG16_N (QFN, 16-Leads, Body 3x3mm, Pitch 0.5mm, Thermal Pad 1.25x1.25mm, IPC Medium Density)
footprint MCHP-QFN-MG16_L (QFN, 16-Leads, Body 3x3mm, Pitch 0.5mm, Thermal Pad 1.25x1.25mm, IPC High Density)
footprint MCHP-QFN-MG16_M (QFN, 16-Leads, Body 3x3mm, Pitch 0.5mm, Thermal Pad 1.25x1.25mm, IPC Low Density)
pins: 1 LREF (in) "Reference Inductor Input", 2 LBTN (in) "Active Inductor Input", 3 VDD (power) "Power Supply", 4 DRVOUT (out) "Current Driver Output for Inductors", 5 DRVIN (in) "Current Driver Input", 6 CLK (in) "Clock Signal", 7 REFSEL (in) "Detector Select Input", 8 ~{CS} (in) "Chip Select, Active low", 9 ISOL (in) "Detector Isolation Control Input, high = isolate", 10 VSS (power) "Power Supply Return", 11 VDETOUT (hiz) "Detector Output Voltage", 12 VDET- (in) "Negative Input for Output Detector", 13 VDET+ (in) "Positive Input for Output Detector", 14 NC "No connect", 15 NC "No connect", 16 VREF (out) "Voltage Reference", 17 EP

## MCP2036-I/P
designator U?
Inductive Sensor Analog Front End Device, -40 to 85 degC, 14-pin PDIP (P14), Tube; Manufacturer: Microchip; PartNumber: MCP2036-I/P; DatasheetVersion: Rev. C; PackageVersion: C04-005B; PackageReference: PDIP-P14; PackageDescription: 14-Lead Plastic Dual In-Line, 6.6 x 19.18 mm Body, 2.54 mm Pitch; Supplier 1: Digi-Key; Supplier Part Number 1: MCP2036-I/P-ND; Mounting Technology: Through Hole; ComponentLink1Description: Manufacturer URL; ComponentLink1URL: http://www.microchip.com; ComponentLink2Description: Datasheet; ComponentLink2URL: http://ww1.microchip.com/downloads/en/DeviceDoc/22186C.pdf; ComponentLink3Description: Package Specification; ComponentLink3URL: http://www.microchip.com/stellent/groups/techpub_sg/documents/packagingspec/en012702.pdf; ComponentLink4Description: Product URL; ComponentLink4URL: http://www.microchip.com/MCP2036
footprint MCHP-PDIP-P14 (DIP, 14-Leads, Body 19.177x6.604mm, Pitch 2.54mm)
pins: 1 VREF (out) "Voltage Reference", 2 LREF (in) "Reference Inductor Input", 3 LBTN (in) "Active Inductor Input", 4 VDD (power) "Power Supply", 5 DRVOUT (out) "Current Driver Output for Inductors", 6 DRVIN (in) "Current Driver Input", 7 CLK (in) "Clock Signal", 8 REFSEL (in) "Detector Select Input", 9 ~{CS} (in) "Chip Select, Active low", 10 ISOL (in) "Detector Isolation Control Input, high = isolate", 11 VSS (power) "Power Supply Return", 12 VDETOUT (hiz) "Detector Output Voltage", 13 VDET- (in) "Negative Input for Output Detector", 14 VDET+ (in) "Positive Input for Output Detector"

## MCP2036-I/SL
designator U?
Inductive Sensor Analog Front End Device, -40 to 85 degC, 14-pin SOIC (SL14), Tube; Manufacturer: Microchip; PartNumber: MCP2036-I/SL; DatasheetVersion: Rev. C; PackageVersion: C04-065C; PackageReference: SOIC-SL14; PackageDescription: 14-Lead Plastic Small Outline, 8.65 x 3.9 mm Body, 1.27 mm Pitch; Supplier 1: Digi-Key; Supplier Part Number 1: MCP2036-I/SL-ND; Mounting Technology: Surface Mount; ComponentLink1Description: Manufacturer URL; ComponentLink1URL: http://www.microchip.com; ComponentLink2Description: Datasheet; ComponentLink2URL: http://ww1.microchip.com/downloads/en/DeviceDoc/22186C.pdf; ComponentLink3Description: Package Specification; ComponentLink3URL: http://www.microchip.com/stellent/groups/techpub_sg/documents/packagingspec/en012702.pdf; ComponentLink4Description: Product URL; ComponentLink4URL: http://www.microchip.com/MCP2036
footprint MCHP-SOIC-SL14_N (SOIC, 14-Leads, Body 8.65x3.9mm, Pitch 1.27mm, IPC Medium Density)
footprint MCHP-SOIC-SL14_L (SOIC, 14-Leads, Body 8.65x3.9mm, Pitch 1.27mm, IPC High Density)
footprint MCHP-SOIC-SL14_M (SOIC, 14-Leads, Body 8.65x3.9mm, Pitch 1.27mm, IPC Low Density)
pins: 1 VREF (out) "Voltage Reference", 2 LREF (in) "Reference Inductor Input", 3 LBTN (in) "Active Inductor Input", 4 VDD (power) "Power Supply", 5 DRVOUT (out) "Current Driver Output for Inductors", 6 DRVIN (in) "Current Driver Input", 7 CLK (in) "Clock Signal", 8 REFSEL (in) "Detector Select Input", 9 ~{CS} (in) "Chip Select, Active low", 10 ISOL (in) "Detector Isolation Control Input, high = isolate", 11 VSS (power) "Power Supply Return", 12 VDETOUT (hiz) "Detector Output Voltage", 13 VDET- (in) "Negative Input for Output Detector", 14 VDET+ (in) "Positive Input for Output Detector"